# EAGLE library part HMC1023LP5E (library hittite)
LOW PASS FILTER 72 MHz DUAL PROGRAMMABLE WITH DRIVER
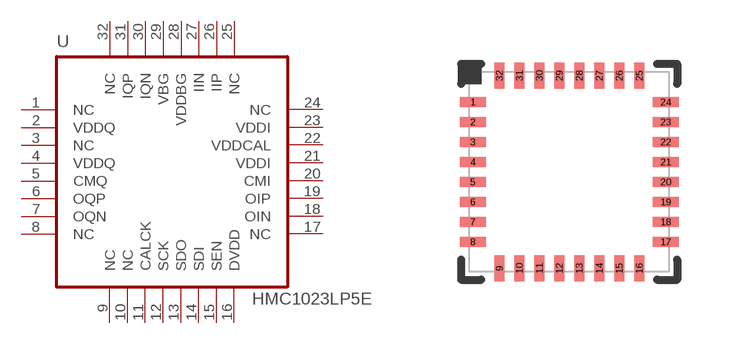
[diagram p1: symbol with the pads of QFN32-LP5(E); footprint QFN32-LP5(E)]

Designator prefix U

## HMC1023LP5E  [QFN32-LP5(E)]
1  NC  nc
2  VDDQ  pwr
3  NC  nc
4  VDDQ  pwr
5  CMQ  in
6  OQP  out
7  OQN  out
8  NC  nc
9  NC  nc
10  NC  nc
11  CALCK  in
12  SCK
13  SDO  out
14  SDI  in
15  SEN  in
16  DVDD  pwr
17  NC  nc
18  OIN  out
19  OIP  out
20  CMI  in
21  VDDI  pwr
22  VDDCAL  pas
23  VDDI  pwr
24  NC  nc
25  NC  nc
26  IIP  in
27  IIN  in
28  VDDBG  pas
29  VBG  out
30  IQN  in
31  IQP  in
32  NC  nc

## Footprint QFN32-LP5(E) (pad centres in mm)
QFN-32 pitch 0.5 mm, body 5x5 mm Solder Mask Defined Thermal Pad
smd 0.66 x 0.254: 1 -2.413,1.75; 2 -2.413,1.25; 3 -2.413,0.75; 4 -2.413,0.25; 5 -2.413,-0.25; 6 -2.413,-0.75; 7 -2.413,-1.25; 8 -2.413,-1.75; 17 2.413,-1.75; 18 2.413,-1.25; 19 2.413,-0.75; 20 2.413,-0.25; 21 2.413,0.25; 22 2.413,0.75; 23 2.413,1.25; 24 2.413,1.75
smd 0.254 x 0.66: 9 -1.75,-2.413; 10 -1.25,-2.413; 11 -0.75,-2.413; 12 -0.25,-2.413; 13 0.25,-2.413; 14 0.75,-2.413; 15 1.25,-2.413; 16 1.75,-2.413; 25 1.75,2.413; 26 1.25,2.413; 27 0.75,2.413; 28 0.25,2.413; 29 -0.25,2.413; 30 -0.75,2.413; 31 -1.25,2.413; 32 -1.75,2.413